# EAGLE library part CONN:DB9-TYPE2 (library QuantumOptics)
Connector, DB9, board mount, e.g. Tyco 1-5747150-4.
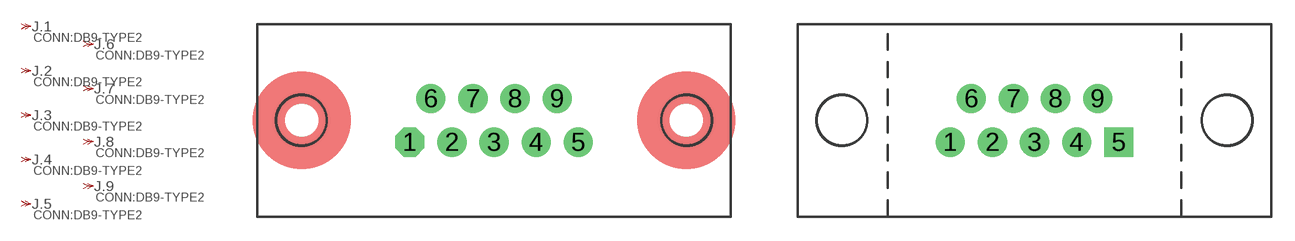
[diagram p127: symbol with the pads of CONN:DB9-H/V1; footprints CONN:DB9-H/V1, CONN:DB9-MALE-V2]

Designator prefix J; gates .1=CONN:PIN-TYPE2 .2=CONN:PIN-TYPE2 .3=CONN:PIN-TYPE2 .4=CONN:PIN-TYPE2 .5=CONN:PIN-TYPE2 .6=CONN:PIN-TYPE2 .7=CONN:PIN-TYPE2 .8=CONN:PIN-TYPE2 .9=CONN:PIN-TYPE2

## CONN:DB9-TYPE2-TYCO_5747XXX-X_FEMALE  [CONN:DB9-H/V1]
1  .1:P$1
2  .2:P$1
3  .3:P$1
4  .4:P$1
5  .5:P$1
6  .6:P$1
7  .7:P$1
8  .8:P$1
9  .9:P$1

## CONN:DB9-TYPE2-TYCO_5747XXX-X_MALE  [CONN:DB9-H/V1]
1  .5:P$1
2  .4:P$1
3  .3:P$1
4  .2:P$1
5  .1:P$1
6  .9:P$1
7  .8:P$1
8  .7:P$1
9  .6:P$1

## CONN:DB9-TYPE2-TYCO_5747150-7_ET_AL  [CONN:DB9-MALE-V2]
Pads as for CONN:DB9-H/V1

## Footprint CONN:DB9-H/V1 (pad centres in mm)
SUB-D9, AKA DB-9, fits AMP 8.08mm mount such as 745131 (plastic F, horiz), 5745781 (steel F, horiz), 5747250 (steel M, horiz). or 5747089-2 (steel, vert) http://documents.tycoelectronics.com/commerce/DocumentDelivery/DDEController?Action=srchrtrv&DocNm=5745781&DocType=CD&DocLang=EN
drill 1.067 pad 1.905 octagon: 1 -5.48,-1.42
drill 1.067 pad 1.905: 2 -2.74,-1.42; 3 0,-1.42; 4 2.74,-1.42; 5 5.48,-1.42; 6 -4.11,1.42; 7 -1.37,1.42; 8 1.37,1.42; 9 4.11,1.42
hole 3.175 at -12.5,0
hole 3.175 at 12.5,0

## Footprint CONN:DB9-MALE-V2 (pad centres in mm)
SUB-D9, plastic base, vertical, fits AMP 8.08mm mount http://documents.tycoelectronics.com/commerce/DocumentDelivery/DDEController?Action=srchrtrv&DocNm=5745781&DocType=CD&DocLang=EN
drill 1.067 pad 1.905: 1 -5.48,-1.42; 2 -2.74,-1.42; 3 0,-1.42; 4 2.74,-1.42; 6 -4.11,1.42; 7 -1.37,1.42; 8 1.37,1.42; 9 4.11,1.42
drill 1.067 pad 1.905 square: 5 5.48,-1.42
hole 3.175 at -12.5,0
hole 3.175 at 12.5,0